# EAGLE library part POLOLU_STEP_DOWN_5V_9A (library zumy)
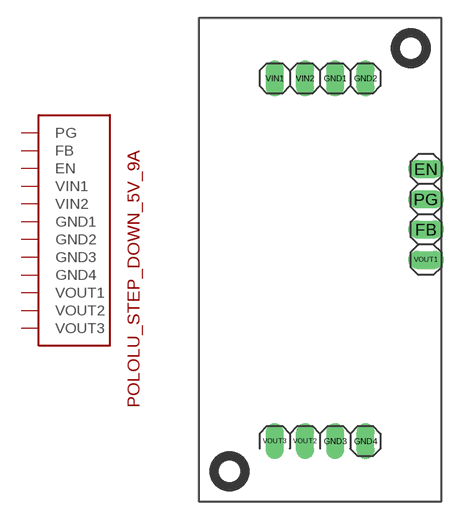
[diagram p7: symbol with the pads of POLOLU_STEP_DOWN_5V_9A; footprint POLOLU_STEP_DOWN_5V_9A]

Designator prefix -

## POLOLU_STEP_DOWN_5V_9A  [POLOLU_STEP_DOWN_5V_9A]
EN  EN
FB  FB
GND1  GND1
GND2  GND2
GND3  GND3
GND4  GND4
PG  PG
VIN1  VIN1
VIN2  VIN2
VOUT1  VOUT1
VOUT2  VOUT2
VOUT3  VOUT3

## Footprint POLOLU_STEP_DOWN_5V_9A (pad centres in mm)
drill 1.016 long: EN 19.05,27.94; FB 19.05,22.86; GND1 11.43,35.56; GND2 13.97,35.56; GND3 11.43,5.08; GND4 13.97,5.08; PG 19.05,25.4; VIN1 6.35,35.56; VIN2 8.89,35.56; VOUT1 19.05,20.32; VOUT2 8.89,5.08; VOUT3 6.35,5.08
hole 2.4 at 17.78,38.1
hole 2.4 at 2.54,2.54